# Altium footprint library Library.PcbLib: 124 footprints (part 2 of 8)
Each footprint in its own frame and in the unit in brackets; x right, y up, seen from the top. Pads: shape width x height; smd on the part's side, far side on the other; paste and mask are expansions set on the pad; w line width, h text height; cw(c..) or ccw(c..) is an arc to the next point about the centre after c.
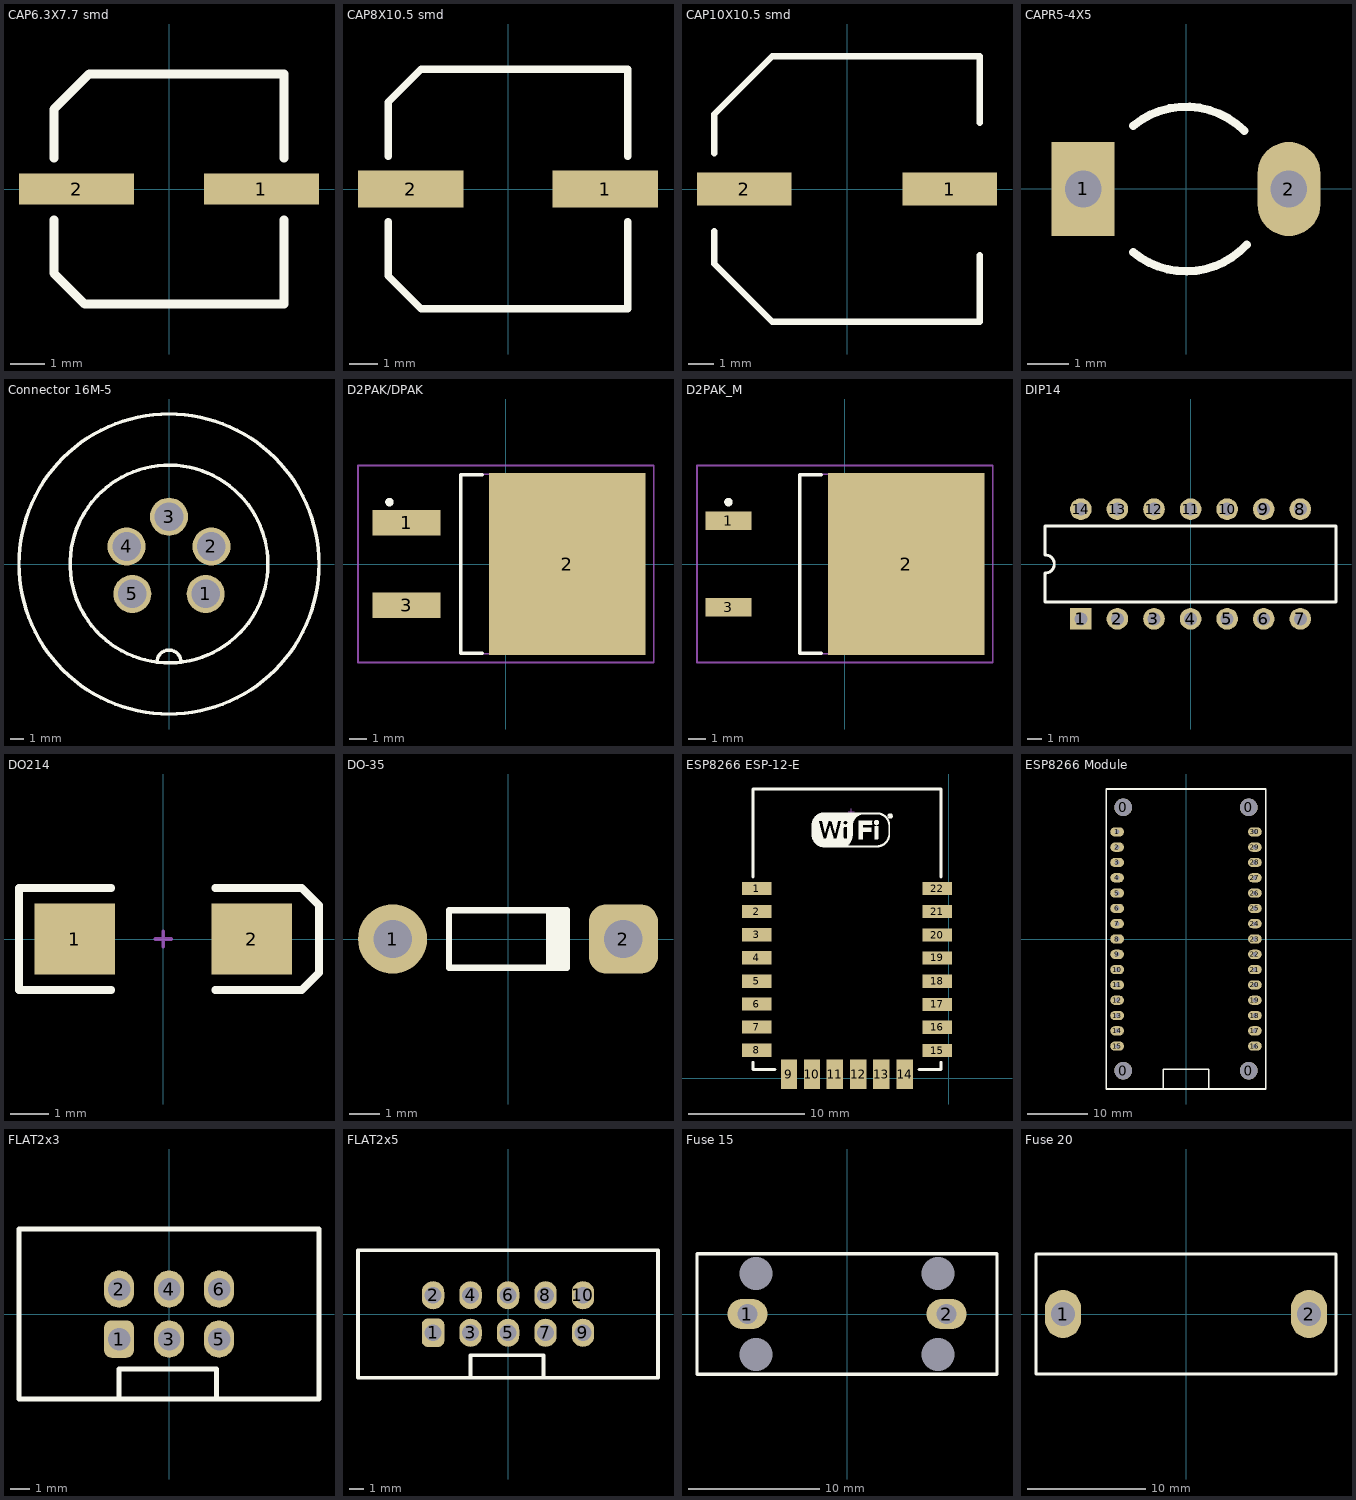
[diagram p1: the footprints below, top view; thin cyan lines are the x and y axes]

## CAP6.3X7.7 smd [mil] "10"
height 303.15
pads (2):
  rect 130x35 smd: 1(104.37,0) 2(-104.37,0)
Top Overlay:
  lines w10: -130,-35 -130,-80 -130,-95 -95,-130 130,-130 130,-35 ; -130,35 -130,90 -90,130 130,130 130,35

## CAP8X10.5 smd [mm] "Cap"
height 10.5
pads (2):
  rect 3.7x1.3 smd: 1(3.4,0) 2(-3.4,0)
Top Overlay:
  lines w0.254: -4.191,-1.143 -4.191,-3.048 -3.048,-4.191 4.191,-4.191 4.191,-1.143 ; -4.191,1.143 -4.191,3.048 -3.048,4.191 4.191,4.191 4.191,1.143

## CAP10X10.5 smd [mm] "Cap"
height 10.5
pads (2):
  rect 3.7x1.3 smd: 1(4.027,0) 2(-4.027,0)
Top Overlay:
  lines w0.254: -5.203,2.925 -2.928,5.2 5.2,5.2 5.2,2.6 ; -5.2,-1.65 -5.2,-2.928 -2.928,-5.2 5.2,-5.2 5.2,-2.6 ; -5.2,1.4 -5.2,2.925

## CAPR5-4X5 [mil] "Capacitor; 2 Leads"
height 472.44
pads (2):
  rect 60x90 hole 35: 1(-98.43,0)
  oval 60x90 hole 35: 2(98.43,0)
Top Overlay:
  lines w7.87: -50.41,-60.49 ccw(c0,0) 58.04,-53.21 ; -50.41,60.49 cw(c0,0) 55.68,55.68

## Connector 16M-5 [mm]
height 16
pads (5):
  round 2.794 hole 2.1: 1(2.69,-2.195) 2(3.11,1.285) 3(0,3.465) 4(-3.11,1.285) 5(-2.69,-2.195)
Top Overlay:
  circle w0.254: c0,0 r7.25
  circle w0.254: c0,0 r11
  lines w0.254: -0.889,-7.2 cw(c0,-7.2) 0.889,-7.2

## D2PAK/DPAK [mm] "D2-PAK, 4-Leads, Body 8.8x10.4mm, Pitch 2.54mm, Lead Span 15.1mm, IPC Low Density"
height 4.69
pads (3):
  rect 4x1.5 smd: 1(-5.834,2.413) 3(-5.834,-2.413)
  rect 9.2x10.7 smd: 2(3.6,0)
Top Overlay:
  circle w0.25: c-6.85,3.64 r0.125
  lines w0.2: -1.4,-5.25 -2.65,-5.25 -2.65,5.25 -1.4,5.25
Mechanical 13:
  lines w0.1: -2.65,-5.275 6.35,-5.275 6.35,5.275 -2.65,5.275 -2.65,-5.275
Mechanical 15:
  lines w0.1: -0.5,0 0.5,0 ; 0,-0.5 0,0.5 ; -8.7,-5.8 8.7,-5.8 8.7,5.8 -8.7,5.8 -8.7,-5.8
3D body: height 4.69, standoff 0, extent -2.65,-5.275 6.35,5.275

## D2PAK_M [mm] "D2-PAK, 4-Leads, Body 8.8x10.4mm, Pitch 2.54mm, Lead Span 15.1mm, IPC Low Density"
height 4.69
pads (3):
  rect 2.7x1.1 smd: 1(-6.85,2.54) 3(-6.85,-2.54)
  rect 9.2x10.7 smd: 2(3.6,0)
Top Overlay:
  circle w0.25: c-6.85,3.64 r0.125
  lines w0.2: -1.4,-5.25 -2.65,-5.25 -2.65,5.25 -1.4,5.25
Mechanical 13:
  lines w0.1: -2.65,-5.275 -2.65,5.275 6.35,5.275 6.35,-5.275 -2.65,-5.275
Mechanical 15:
  lines w0.1: -0.5,0 0.5,0 ; 0,-0.5 0,0.5 ; -8.7,-5.8 -8.7,5.8 8.7,5.8 8.7,-5.8 -8.7,-5.8
3D body: height 4.69, standoff 0, extent -2.65,-5.275 6.35,5.275

## DIP14 [mm] "DIP; 14 Leads; Row Spacing 7.62 mm; Pitch 2.54 mm"
height 5.1
pads (14):
  rect 1.5x1.5 hole 0.9: 1(-7.62,-3.81)
  round 1.5 hole 0.9: 2(-5.08,-3.81) 3(-2.54,-3.81) 4(0,-3.81) 5(2.54,-3.81) 6(5.08,-3.81) 7(7.62,-3.81) 8(7.62,3.81) 9(5.08,3.81) 10(2.54,3.81) 11(0,3.81) 12(-2.54,3.81) 13(-5.08,3.81) 14(-7.62,3.81)
Top Overlay:
  lines w0.2: -10.1,-2.65 10.1,-2.65 10.1,2.65 -10.1,2.65 -10.1,0.635 cw(c-10.1,0) -10.1,-0.635 -10.1,-2.65

## DO214 [mm] "DO-214-AC/SMA; 2 C-Bend Leads; Body 5.3 x 2.6 mm, inc. leads (LxW)"
height 2.3
pads (2):
  rect 2.1x1.85 smd: 1(-2.3,0) 2(2.3,0)
Top Overlay:
  lines w0.2: -1.35,-1.325 -3.75,-1.325 -3.75,1.325 -1.35,1.325 ; 1.35,-1.325 3.6,-1.325 4.05,-0.875 4.05,0.875 3.6,1.325 1.35,1.325
Mechanical 1:
  lines w0.1: -0.2,0 0.2,0 ; 0,-0.2 0,0.2

## DO-35 [mil] "1N4148, Diode, Axial; Body 3.8 x 1.9 mm (LxDia. max), Lead Dia. 0.53 mm (max)"
height 74.8
pads (2):
  round 90 hole 50: 1(-150,0)
  rrect50% 90x90 hole 50: 2(150,0)
Top Overlay:
  rectangle: 49.21,-37.4 80.71,37.4
  lines w7.87: 76.77,-37.4 -76.77,-37.4 -76.77,37.4 76.77,37.4

## ESP8266 ESP-12-E [mil] "ESP8266 ESP-12-E"
pads (22):
  rect 100x45 smd: 1(-653,646) 2(-653,568) 3(-653,489) 4(-653,411) 5(-653,331) 6(-653,253) 7(-653,175) 8(-653,96) 15(-38,95) 16(-38,174) 17(-38,252) 18(-39,331) 19(-39,410) 20(-39,488) 21(-39,568) 22(-39,646)
  rect 55x100 smd: 9(-543,14) 10(-465,14) 11(-387,14) 12(-307,14) 13(-229,14) 14(-149,14)
Top Overlay:
  drawing of 1267 lines, arcs and shapes, not listed
  text ".Designator" at -679,-84 h39.37
Mechanical 15:
  lines w3.94: -341,907.92 -321,907.92 ; -331,897.92 -331,917.92

## ESP8266 Module [mil] "ESP8266 Module"
height 20
pads (34):
  round 115 hole 115 unplated paste-300 mask-300: 0(-410,-860) 0(-410,860) 0(410,-860) 0(410,860)
  oval 90x60 hole 30: 1(-450,700) 2(-450,600) 3(-450,500) 4(-450,400) 5(-450,300) 6(-450,200) 7(-450,100) 8(-450,0) 9(-450,-100) 10(-450,-200) 11(-450,-300) 12(-450,-400) 13(-450,-500) 14(-450,-600) 15(-450,-700) 16(450,-700) 17(450,-600) 18(450,-500) 19(450,-400) 20(450,-300) 21(450,-200) 22(450,-100) 23(450,0) 24(450,100) 25(450,200) 26(450,300) 27(450,400) 28(450,500) 29(450,600) 30(450,700)
Top Overlay:
  lines w10: -150,-980 -150,-850 150,-850 150,-980 ; -520,-980 520,-980 520,980 -520,980 -520,-980

## FLAT2x3 [mil]
pads (6):
  rrect50% 60x75 hole 45: 1(-100,-50)
  oval 60x75 hole 45: 2(-100,50) 3(0,-50) 4(0,50) 5(100,-50) 6(100,50)
Top Overlay:
  lines w10: -100,-170 -100,-110 95,-110 95,-170 ; -300,-170 -300,170 300,170 300,-170 -300,-170

## FLAT2x5 [mil]
pads (10):
  rrect50% 60x75 hole 45: 1(-200,-50)
  oval 60x75 hole 45: 2(-200,50) 3(-100,-50) 4(-100,50) 5(0,-50) 6(0,50) 7(100,-50) 8(100,50) 9(200,-50) 10(200,50)
Top Overlay:
  lines w10: -100,-170 -100,-110 95,-110 95,-170 ; -400,-170 400,-170 400,170 -400,170 -400,-170

## Fuse 15 [mm] "Fuse 15"
height 10
pads (6):
  oval 3.048x2.286 hole 1.524: 1(-7.575,0) 2(7.575,0)
  round 0 hole 2.5: 3(-6.915,-3.065) 3(-6.915,3.065) 3(6.915,-3.065) 3(6.915,3.065)
Top Overlay:
  lines w0.254: -11.4,-4.572 -11.4,4.572 11.4,4.572 11.4,-4.572 -11.4,-4.572

## Fuse 20 [mil] "Fuse 20"
height 393.7
pads (2):
  oval 120x160 hole 80: 1(-410,0) 2(410,0)
Top Overlay:
  lines w10: -500,-200 -500,200 500,200 500,-200 -500,-200